# Altium schematic symbol library BAV99.SchLib: 1 symbol
Pins are listed as number, name and electrical type; pins without a type are passive.

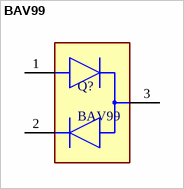
[diagram p0: symbol BAV99]

## BAV99
designator Q?
pins: 1, 2, 3